# Altium schematic symbol library DS1818.SchLib: 1 symbol
Pins are listed as number, name and electrical type; pins without a type are passive.

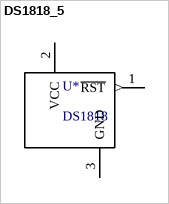
[diagram p0: symbol DS1818_5]

## DS1818_5
designator U*, comment DS1818
3.3V EconoReset with Pushbutton
pins: 1 ~{RST} (out), 2 VCC (power), 3 GND (power)